# EAGLE library part MNR18E0APJ* (library Resistors - Networks,Arrays)
Rohm Compact 8-element Chip Resistor Network MNR18E0AP series 8-element, isolated 10 to 1M 25 V J (+/- 5%) 0602x8 (1206) 0.063W/Element
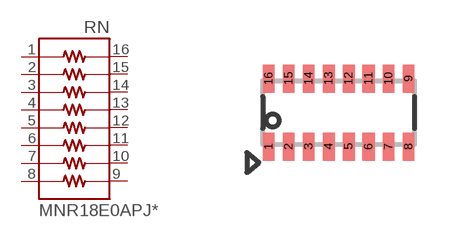
[diagram p2: symbol with the pads of 0602X8; footprint 0602X8]

Designator prefix RN

## MNR18E0APJ100 (R: 10), MNR18E0APJ120 (R: 12), MNR18E0APJ150 (R: 15)  [0602X8]
1  1  pas
2  2  pas
3  3  pas
4  4  pas
5  5  pas
6  6  pas
7  7  pas
8  8  pas
9  9  pas
10  10  pas
11  11  pas
12  12  pas
13  13  pas
14  14  pas
15  15  pas
16  16  pas

## Footprint 0602X8 (pad centres in mm)
smd 0.3 x 0.7: 1 -1.75,-0.85; 2 -1.25,-0.85; 3 -0.75,-0.85; 4 -0.25,-0.85; 5 0.25,-0.85; 6 0.75,-0.85; 7 1.25,-0.85; 8 1.75,-0.85; 9 1.75,0.85; 10 1.25,0.85; 11 0.75,0.85; 12 0.25,0.85; 13 -0.25,0.85; 14 -0.75,0.85; 15 -1.25,0.85; 16 -1.75,0.85